# Altium schematic symbol library cSLIM-shield.SchLib: 41 symbols
Pins are listed as number, name and electrical type; pins without a type are passive.

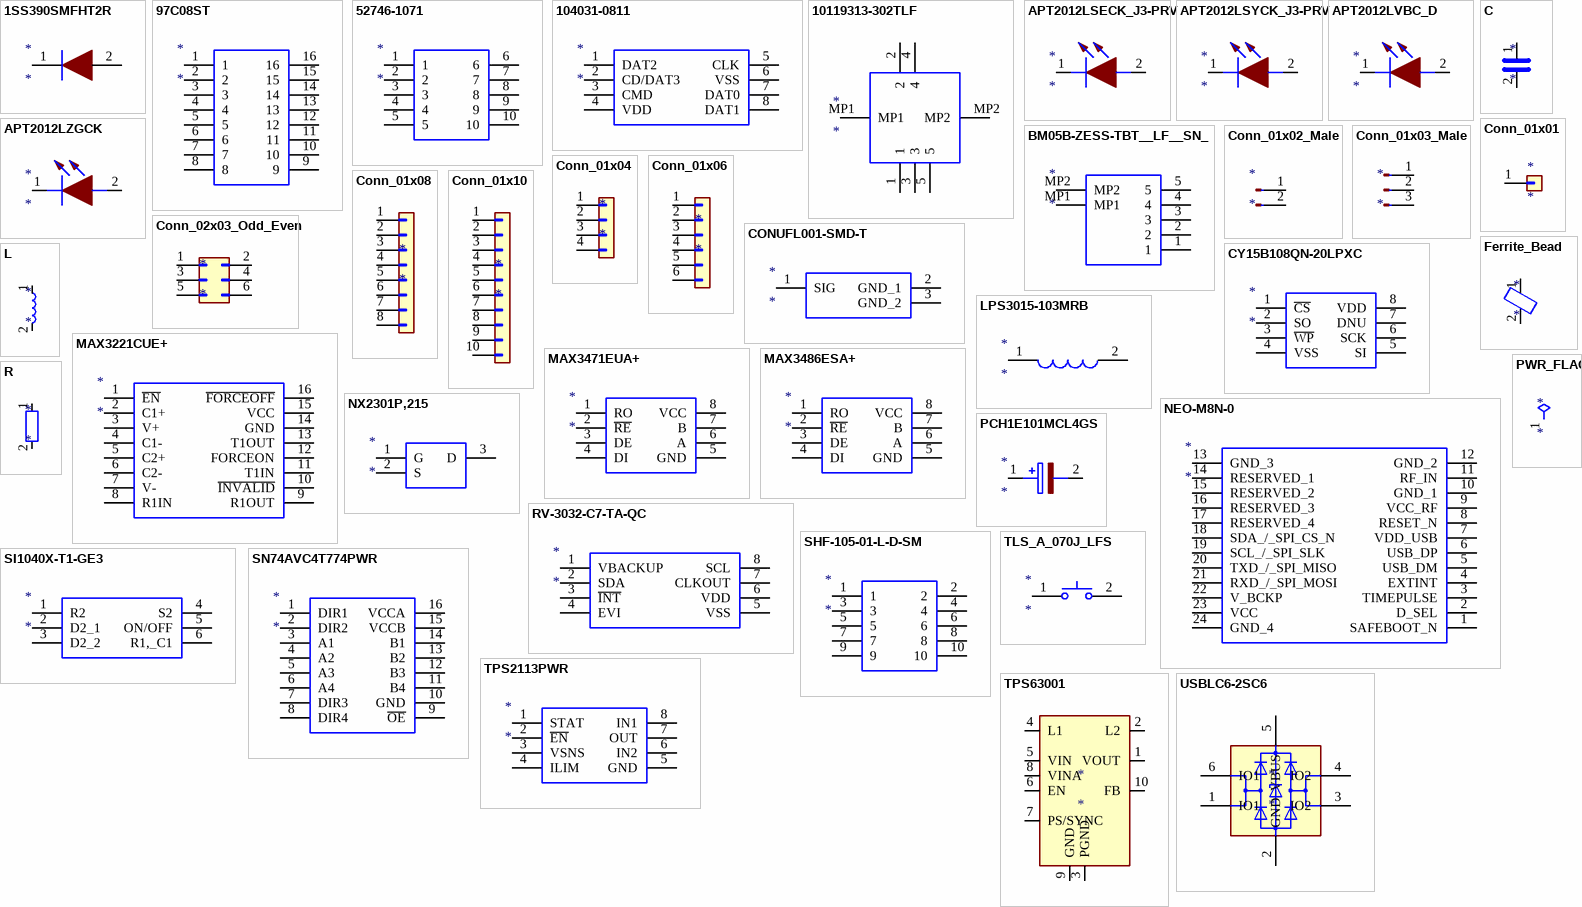
[diagram p0: symbols 1SS390SMFHT2R to USBLC6-2SC6]

## 1SS390SMFHT2R
designator *
pins: 1, 2

## 97C08ST
designator *
pins: 1, 2, 3, 4, 5, 6, 7, 8, 9, 10, 11, 12, 13, 14, 15, 16

## 52746-1071
designator *
pins: 1, 2, 3, 4, 5, 6, 7, 8, 9, 10

## 104031-0811
designator *
pins: 1 DAT2, 2 CD/DAT3, 3 CMD, 4 VDD, 5 CLK, 6 VSS, 7 DAT0, 8 DAT1

## 10119313-302TLF
designator *
pins: 1, 2, 3, 4, 5, MP1, MP2

## APT2012LSECK_J3-PRV
designator *
pins: 1, 2

## APT2012LSYCK_J3-PRV
designator *
pins: 1, 2

## APT2012LVBC_D
designator *
pins: 1, 2

## APT2012LZGCK
designator *
pins: 1, 2

## BM05B-ZESS-TBT__LF__SN_
designator *
pins: 1, 2, 3, 4, 5, MP1, MP2

## C
designator *
pins: 1, 2

## Conn_01x01
designator *
pins: 1 Pin_1

## Conn_01x02_Male
designator *
pins: 1 Pin_1, 2 Pin_2

## Conn_01x03_Male
designator *
pins: 1 Pin_1, 2 Pin_2, 3 Pin_3

## Conn_01x04
designator *
pins: 1 Pin_1, 2 Pin_2, 3 Pin_3, 4 Pin_4

## Conn_01x06
designator *
pins: 1 Pin_1, 2 Pin_2, 3 Pin_3, 4 Pin_4, 5 Pin_5, 6 Pin_6

## Conn_01x08
designator *
pins: 1 Pin_1, 2 Pin_2, 3 Pin_3, 4 Pin_4, 5 Pin_5, 6 Pin_6, 7 Pin_7, 8 Pin_8

## Conn_01x10
designator *
pins: 1 Pin_1, 2 Pin_2, 3 Pin_3, 4 Pin_4, 5 Pin_5, 6 Pin_6, 7 Pin_7, 8 Pin_8, 9 Pin_9, 10 Pin_10

## Conn_02x03_Odd_Even
designator *
pins: 1 Pin_1, 2 Pin_2, 3 Pin_3, 4 Pin_4, 5 Pin_5, 6 Pin_6

## CONUFL001-SMD-T
designator *
pins: 1 SIG, 2 GND_1, 3 GND_2

## CY15B108QN-20LPXC
designator *
pins: 1 ~{CS}, 2 SO, 3 ~{WP}, 4 VSS, 5 SI, 6 SCK, 7 DNU, 8 VDD

## Ferrite_Bead
designator *
pins: 1, 2

## L
designator *
pins: 1, 2

## LPS3015-103MRB
designator *
pins: 1, 2

## MAX3221CUE+
designator *
pins: 1 ~{EN}, 2 C1+, 3 V+, 4 C1-, 5 C2+, 6 C2-, 7 V-, 8 R1IN, 9 R1OUT, 10 ~{INVALID}, 11 T1IN, 12 FORCEON, 13 T1OUT, 14 GND, 15 VCC, 16 ~{FORCEOFF}

## MAX3471EUA+
designator *
pins: 1 RO, 2 ~{RE}, 3 DE, 4 DI, 5 GND, 6 A, 7 B, 8 VCC

## MAX3486ESA+
designator *
pins: 1 RO, 2 ~{RE}, 3 DE, 4 DI, 5 GND, 6 A, 7 B, 8 VCC

## NEO-M8N-0
designator *
pins: 1 SAFEBOOT_N, 2 D_SEL, 3 TIMEPULSE, 4 EXTINT, 5 USB_DM, 6 USB_DP, 7 VDD_USB, 8 RESET_N, 9 VCC_RF, 10 GND_1, 11 RF_IN, 12 GND_2, 13 GND_3, 14 RESERVED_1, 15 RESERVED_2, 16 RESERVED_3, 17 RESERVED_4, 18 SDA_/_SPI_CS_N, 19 SCL_/_SPI_SLK, 20 TXD_/_SPI_MISO, 21 RXD_/_SPI_MOSI, 22 V_BCKP, 23 VCC, 24 GND_4

## NX2301P,215
designator *
pins: 1 G, 2 S, 3 D

## PCH1E101MCL4GS
designator *
pins: 1, 2

## PWR_FLAG
designator *  (graphical)
pins: 1 pwr

## R
designator *
pins: 1, 2

## RV-3032-C7-TA-QC
designator *
pins: 1 VBACKUP, 2 SDA, 3 ~{INT}, 4 EVI, 5 VSS, 6 VDD, 7 CLKOUT, 8 SCL

## SHF-105-01-L-D-SM
designator *
pins: 1, 2, 3, 4, 5, 6, 7, 8, 9, 10

## SI1040X-T1-GE3
designator *
pins: 1 R2, 2 D2_1, 3 D2_2, 4 S2, 5 ON/OFF, 6 R1,_C1

## SN74AVC4T774PWR
designator *
pins: 1 DIR1, 2 DIR2, 3 A1, 4 A2, 5 A3, 6 A4, 7 DIR3, 8 DIR4, 9 ~{OE}, 10 GND, 11 B4, 12 B3, 13 B2, 14 B1, 15 VCCB, 16 VCCA

## TLS_A_070J_LFS
designator *
pins: 1, 2

## TPS2113PWR
designator *
pins: 1 STAT, 2 ~{EN}, 3 VSNS, 4 ILIM, 5 GND, 6 IN2, 7 OUT, 8 IN1

## TPS63001
designator *
pins: 1 VOUT, 2 L2, 3 PGND, 4 L1, 5 VIN, 6 EN, 7 PS/SYNC, 8 VINA, 9 GND, 10 FB, 11 PGND hidden

## USBLC6-2SC6
designator *
pins: 1 IO1, 2 GND, 3 IO2, 4 IO2, 5 VBUS, 6 IO1

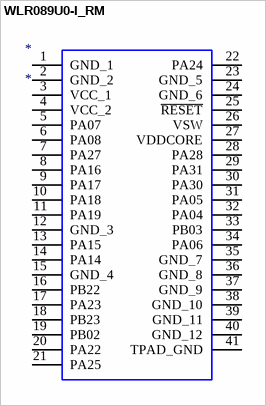
[diagram p1: symbol WLR089U0-I_RM]

## WLR089U0-I_RM
designator *
pins: 1 GND_1, 2 GND_2, 3 VCC_1, 4 VCC_2, 5 PA07, 6 PA08, 7 PA27, 8 PA16, 9 PA17, 10 PA18, 11 PA19, 12 GND_3, 13 PA15, 14 PA14, 15 GND_4, 16 PB22, 17 PA23, 18 PB23, 19 PB02, 20 PA22, 21 PA25, 22 PA24, 23 GND_5, 24 GND_6, 25 ~{RESET}, 26 VSW, 27 VDDCORE, 28 PA28, 29 PA31, 30 PA30, 31 PA05, 32 PA04, 33 PB03, 34 PA06, 35 GND_7, 36 GND_8, 37 GND_9, 38 GND_10, 39 GND_11, 40 GND_12, 41 TPAD_GND